# Altium integrated library SunflowerLib.IntLib: 2 symbols
Pins are listed as number, name and electrical type; pins without a type are passive.

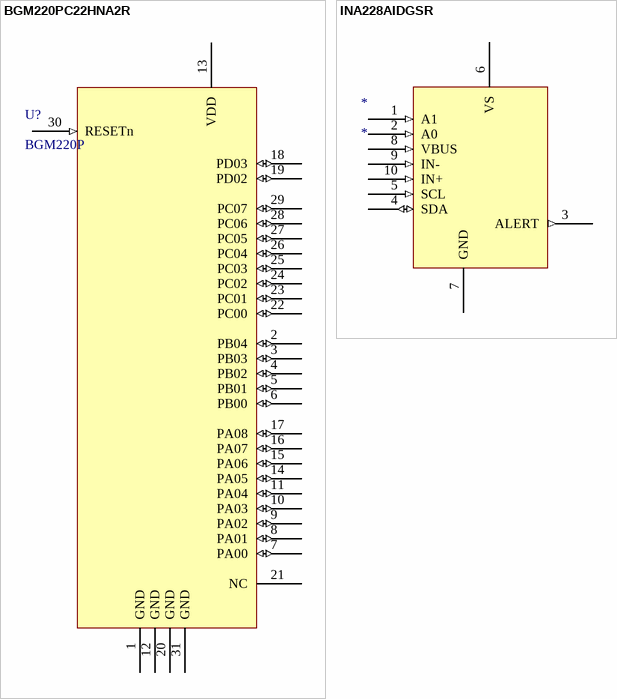
[diagram p0: symbols BGM220PC22HNA2R to INA228AIDGSR]

## BGM220PC22HNA2R
designator U?, comment BGM220P
Wireless bluetooth PCB module, Secure Boot w/Root of Trust and Secure Loader, Built-in antenna; Manufacturer: Silicon Lab; Manufacturer Part Number: BGM220PC22HNA2R; Data Rate: 2Mbps; Max Supply Voltage: 3.8V; Min Supply Voltage: 1.8V; Nominal Supply Voltage (DC): 3V; Number of Circuits: 1; Supplier: DigiKey; Supplier Part Number: 336-BGM220PC22HNA2RCT-ND; Category: RF Receivers, Transceivers; Stock: 4488; Pricing: 1=10.46, 10=8.91, 25=8.384, 100=7.6726, 250=7.25176, 500=6.95712, 1000=5.66221 (USD); Composition: Hybrid; Height - Seated (Max): 2.4mm; Length: 15mm; Lifecycle Status: Production; Max Operating Temperature: 105°C; Min Operating Temperature: -40°C; Number of Terminals: 31; Terminal Pitch: 1.2mm; Width: 12.9mm; ComponentLink1URL: https://datasheet.octopart.com:443/BGM220PC22HNA2R-Silicon-Labs-datasheet-180780823.pdf?src-supplier=IHS; ComponentLink1Description: https://datasheet.octopart.com:443/BGM220PC22HNA2R-Silicon-Labs-datasheet-180780823.pdf?src-supplier=IHS; ComponentLink2URL: https://datasheet.octopart.com:443/BGM220PC22HNA2R-Silicon-Labs-datasheet-150822196.pdf?src-supplier=Farnell; ComponentLink2Description: https://datasheet.octopart.com:443/BGM220PC22HNA2R-Silicon-Labs-datasheet-150822196.pdf?src-supplier=Farnell
footprint BGM220PC22HNA2 (Silicon Labs BGM220P Bluetooth LE Module, 31-Pin, LF Crystal)
pins: 1 GND (power) "Ground", 2 PB04 (io) "GPIO", 3 PB03 (io) "GPIO", 4 PB02 (io) "GPIO", 5 PB01 (io) "GPIO", 6 PB00 (io) "GPIO", 7 PA00 (io) "GPIO", 8 PA01 (io) "GPIO", 9 PA02 (io) "GPIO", 10 PA03 (io) "GPIO", 11 PA04 (io) "GPIO", 12 GND (power) "Ground", 13 VDD (power) "Power supply", 14 PA05 (io) "GPIO", 15 PA06 (io) "GPIO", 16 PA07 (io) "GPIO", 17 PA08 (io) "GPIO", 18 PD03 (io) "GPIO", 19 PD02 (io) "GPIO", 20 GND (power) "Ground", 21 NC "Do not connect", 22 PC00 (io) "GPIO", 23 PC01 (io) "GPIO", 24 PC02 (io) "GPIO", 25 PC03 (io) "GPIO", 26 PC04 (io) "GPIO", 27 PC05 (io) "GPIO", 28 PC06 (io) "GPIO", 29 PC07 (io) "GPIO", 30 RESETn (in) "Reset", 31 GND (power) "Ground"

## INA228AIDGSR
designator *
General Purpose Amplifiers; INA228AIDGSR; TEXAS INSTRUMENTS; 10; 3 mm; 3 mm; 5.5 V; Manufacturer Lifecycle Status: ACTIVE; Max Junction Temperature (Tj): 150°C; Max Supply Voltage: 5.5V; Min Supply Voltage: 2.7V; Nominal Supply Current: 640µA; Output Current: 10mA; Supplier: DigiKey; Supplier Part Number: 296-INA228AIDGSRCT-ND; Manufacturer: Texas Instruments; Manufacturer Part Number: INA228AIDGSR; RoHS: Compliant; Category: Amplifiers - Op Amps, Buffer, Instrumentation; Pricing: 1=4.68, 10=3.553, 25=3.2716, 100=2.962, 250=2.8152, 2500=2.57504 (USD); Ambient Temperature Range High: 125°C; Case/Package: VSSOP; Height: 1.07mm; Length: 3mm; Lifecycle Status: Production; Max Operating Temperature: 125°C; Min Operating Temperature: -40°C; Pins: 10; Thickness: 1.02mm; Width: 3mm; ComponentLink1URL: https://octopart.com:443/opatz8j6/c1?t=gWOkwgxvcZZpogzgh6us7kAdwgm736P1xFY3Pou09JB5_RzCMnOW7sWnpEDB21mCbkYDAazWNv1oiMQdu_BKgb0mAoCi2KJ8LJrwO8kUDNPl2mGaoJGEa9YAf4Pbr-KSqgxhCnIy_zISArDGD_T1Q98urst_F6JX8SBmlPLTyjoVv2TSVp1Ecv4ewpBfvxVF3yc7T9WDZBoozSk0L78Af-Yek5IKNrfy_02cavAlqnBLvEUxU2-VgVaeMXjbhI7HU8JRnQaYPvG55B_N8mTMS3kxpQBUHjgv94j1-0f2cBWRUMr8so2wFAhVu9Ngp6_cGnZOKtIiyKtZ52uDm-zvwCKVU_j8DjJLeHwf8O2enWHS6v6PGUF1rZbvt87R01fqxQ6sVgo&src-supplier=Texas+Instruments; ComponentLink1Description: https://octopart.com:443/opatz8j6/c1?t=gWOkwgxvcZZpogzgh6us7kAdwgm736P1xFY3Pou09JB5_RzCMnOW7sWnpEDB21mCbkYDAazWNv1oiMQdu_BKgb0mAoCi2KJ8LJrwO8kUDNPl2mGaoJGEa9YAf4Pbr-KSqgxhCnIy_zISArDGD_T1Q98urst_F6JX8SBmlPLTyjoVv2TSVp1Ecv4ewpBfvxVF3yc7T9WDZBoozSk0L78Af-Yek5IKNrfy_02cavAlqnBLvEUxU2-VgVaeMXjbhI7HU8JRnQaYPvG55B_N8mTMS3kxpQBUHjgv94j1-0f2cBWRUMr8so2wFAhVu9Ngp6_cGnZOKtIiyKtZ52uDm-zvwCKVU_j8DjJLeHwf8O2enWHS6v6PGUF1rZbvt87R01fqxQ6sVgo&src-supplier=Texas+Instruments; ComponentLink2URL: https://datasheet.octopart.com:443/INA228AIDGSR-Texas-Instruments-datasheet-169774754.pdf?src-supplier=Upverter; ComponentLink2Description: https://datasheet.octopart.com:443/INA228AIDGSR-Texas-Instruments-datasheet-169774754.pdf?src-supplier=Upverter; ComponentLink3URL: https://datasheet.octopart.com:443/INA228AIDGSR-Texas-Instruments-datasheet-179556568.pdf?src-supplier=EBEE; ComponentLink3Description: https://datasheet.octopart.com:443/INA228AIDGSR-Texas-Instruments-datasheet-179556568.pdf?src-supplier=EBEE; ComponentLink4URL: https://datasheet.octopart.com:443/INA228AIDGSR-Texas-Instruments-datasheet-165811300.pdf?src-supplier=SHENGYU+ELECTRONICS; ComponentLink4Description: https://datasheet.octopart.com:443/INA228AIDGSR-Texas-Instruments-datasheet-165811300.pdf?src-supplier=SHENGYU+ELECTRONICS; ComponentLink5URL: http://sigma.octopart.com:80/reach_statement/Texas-Instruments-company-64.pdf?src-supplier=Compliance+Statements; ComponentLink5Description: http://sigma.octopart.com:80/reach_statement/Texas-Instruments-company-64.pdf?src-supplier=Compliance+Statements; ComponentLink6URL: http://sigma.octopart.com:80/conflict_mineral_statement/Texas-Instruments-company-63.pdf?src-supplier=Compliance+Statements; ComponentLink6Description: http://sigma.octopart.com:80/conflict_mineral_statement/Texas-Instruments-company-63.pdf?src-supplier=Compliance+Statements
footprint INA228AIDGSR (TSSOP, 10-Leads, Body 3.00x3.00mm, Pitch 0.50mm, IPC Medium Density)
pins: 1 A1 (in) "I2C address pin. Connect to GND, SCL, SDA, or VS.", 2 A0 (in) "I2C address pin. Connect to GND, SCL, SDA, or VS.", 3 ALERT (out) "Open-drain alert output, default state is active low.", 4 SDA (io) "Open-drain bidirectional I2C data.", 5 SCL (in) "I2C clock input.", 6 VS (power) "Power supply, 2.7 V to 5.5 V.", 7 GND (power) "Ground.", 8 VBUS (in) "Bus voltage input.", 9 IN- (in) "Negative input to the device. For high-side applications, connect to load side of sense resistor. For low-side applications, connect to ground side of sense resistor.", 10 IN+ (in) "Positive input to the device. For high-side applications, connect to power supply side of sense resistor. For low-side applications, connect to load side of sense resistor."